# Altium schematic symbol library Regulator3.3V.SchLib: 1 symbol
Pins are listed as number, name and electrical type; pins without a type are passive.

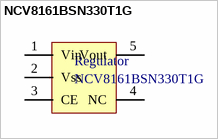
[diagram p0: symbol NCV8161BSN330T1G]

## NCV8161BSN330T1G
designator Regulator
450 mA, Ultra-Low Noise  and High PSRR LDO  Regulator for RF and  Analog Circuits
footprint SOT95P280X110-5N (SOT23, 5-Leads, Body 2.90x2.80mm, Pitch 0.95mm, IPC Medium Density)
pins: 1 Vin, 2 Vss, 3 CE, 4 NC, 5 Vout